# EAGLE library part UMH3NFHATN (library SamacSys_Parts)
ROHM - UMH3NFHATN - TRANS, NPN, AUTO, 4.7K/4.7K, SOT-353 Source: Datasheet <http://www.rohm.com/web/global/datasheet/UMH3NFHA/umh3nfha-e>
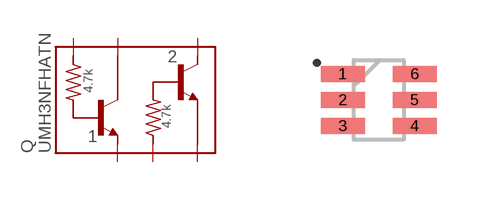
[diagram p9: symbol with the pads of SOT65P210X100-6N; footprint SOT65P210X100-6N]

Designator prefix Q

## UMH3NFHATN (DESCRIPTION: ROHM - UMH3NFHATN - TRANS, NPN, AUTO, 4.7K/4.7K, SOT-353; HEIGHT: 1mm; MANUFACTURER_NAME: ROHM Semiconductor; MANUFACTURER_PART_NUMBER: UMH3NFHATN; MOUSER_PART_NUMBER: 755-UMH3NFHATN; MOUSER_PRICE-STOCK: https://www.mouser.com/Search/Refine.aspx?Keyword=755-UMH3NFHATN)  [SOT65P210X100-6N]
1  1
2  2
3  3
4  4
5  5
6  6

## Footprint SOT65P210X100-6N (pad centres in mm)
UMT6
smd 1.1 x 0.4: 1 -0.9,0.65; 2 -0.9,0; 3 -0.9,-0.65; 4 0.9,-0.65; 5 0.9,0; 6 0.9,0.65